# Altium schematic symbol library SCH - OR CONTROLLER - TI TPS2113APWR.SCHLIB: 1 symbol
Pins are listed as number, name and electrical type; pins without a type are passive.

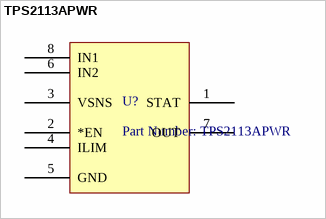
[diagram p0: symbol TPS2113APWR]

## TPS2113APWR
designator U?, comment Part Number: TPS2113APWR
No Description Available; Manufacturer: Texas Instruments; Built_By: EMA_UL_Team; Manufacturer_Part_Number: TPS2113APWR; Vendor: Texas Instruments; Copyright: Copyright (C) 2018 Accelerated Designs. All rights reserved; RefDes: RefDes; Type: DEV; Value: Value
pins: 1 STAT, 2 *EN, 3 VSNS, 4 ILIM, 5 GND (power), 6 IN2, 7 OUT, 8 IN1